# Altium footprint library USBLC6-2SC6.PcbLib: 1 footprints
Each footprint in its own frame and in the unit in brackets; x right, y up, seen from the top. Pads: shape width x height; smd on the part's side, far side on the other; paste and mask are expansions set on the pad; w line width, h text height; cw(c..) or ccw(c..) is an arc to the next point about the centre after c.
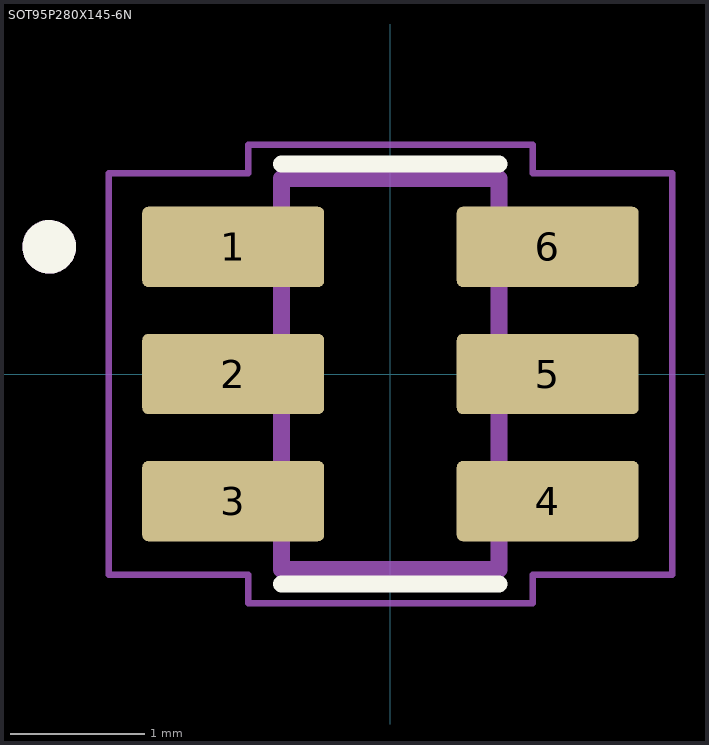
[diagram p0: the footprint, top view; thin cyan lines are the x and y axes]

## SOT95P280X145-6N [mm]
pads (6):
  rrect15% 1.36x0.6 smd: 1(-1.175,0.95) 2(-1.175,0) 3(-1.175,-0.95) 4(1.175,-0.95) 5(1.175,0) 6(1.175,0.95)
Top Overlay:
  circle w0.2: c-2.55,0.95 r0.1
  lines w0.127: -0.813,-1.57 0.813,-1.57 ; -0.813,1.57 0.813,1.57
Mechanical 13:
  circle w0.2: c-2.55,0.95 r0.1
  lines w0.127: -0.813,-1.462 -0.813,1.462 0.813,1.462 0.813,-1.462 -0.813,-1.462
Mechanical 15:
  lines w0.05: -2.105,-1.5 -2.105,1.5 -1.062,1.5 -1.062,1.713 1.062,1.713 1.062,1.5 2.105,1.5 2.105,-1.5 1.062,-1.5 1.062,-1.713 -1.062,-1.713 -1.062,-1.5 -2.105,-1.5
3D body "step_temp.STEP": height 0.4, standoff -1.05, extent -1.4,-1.462 1.4,1.462